# EAGLE library part EP4CE15F17 (library ic-Altera)
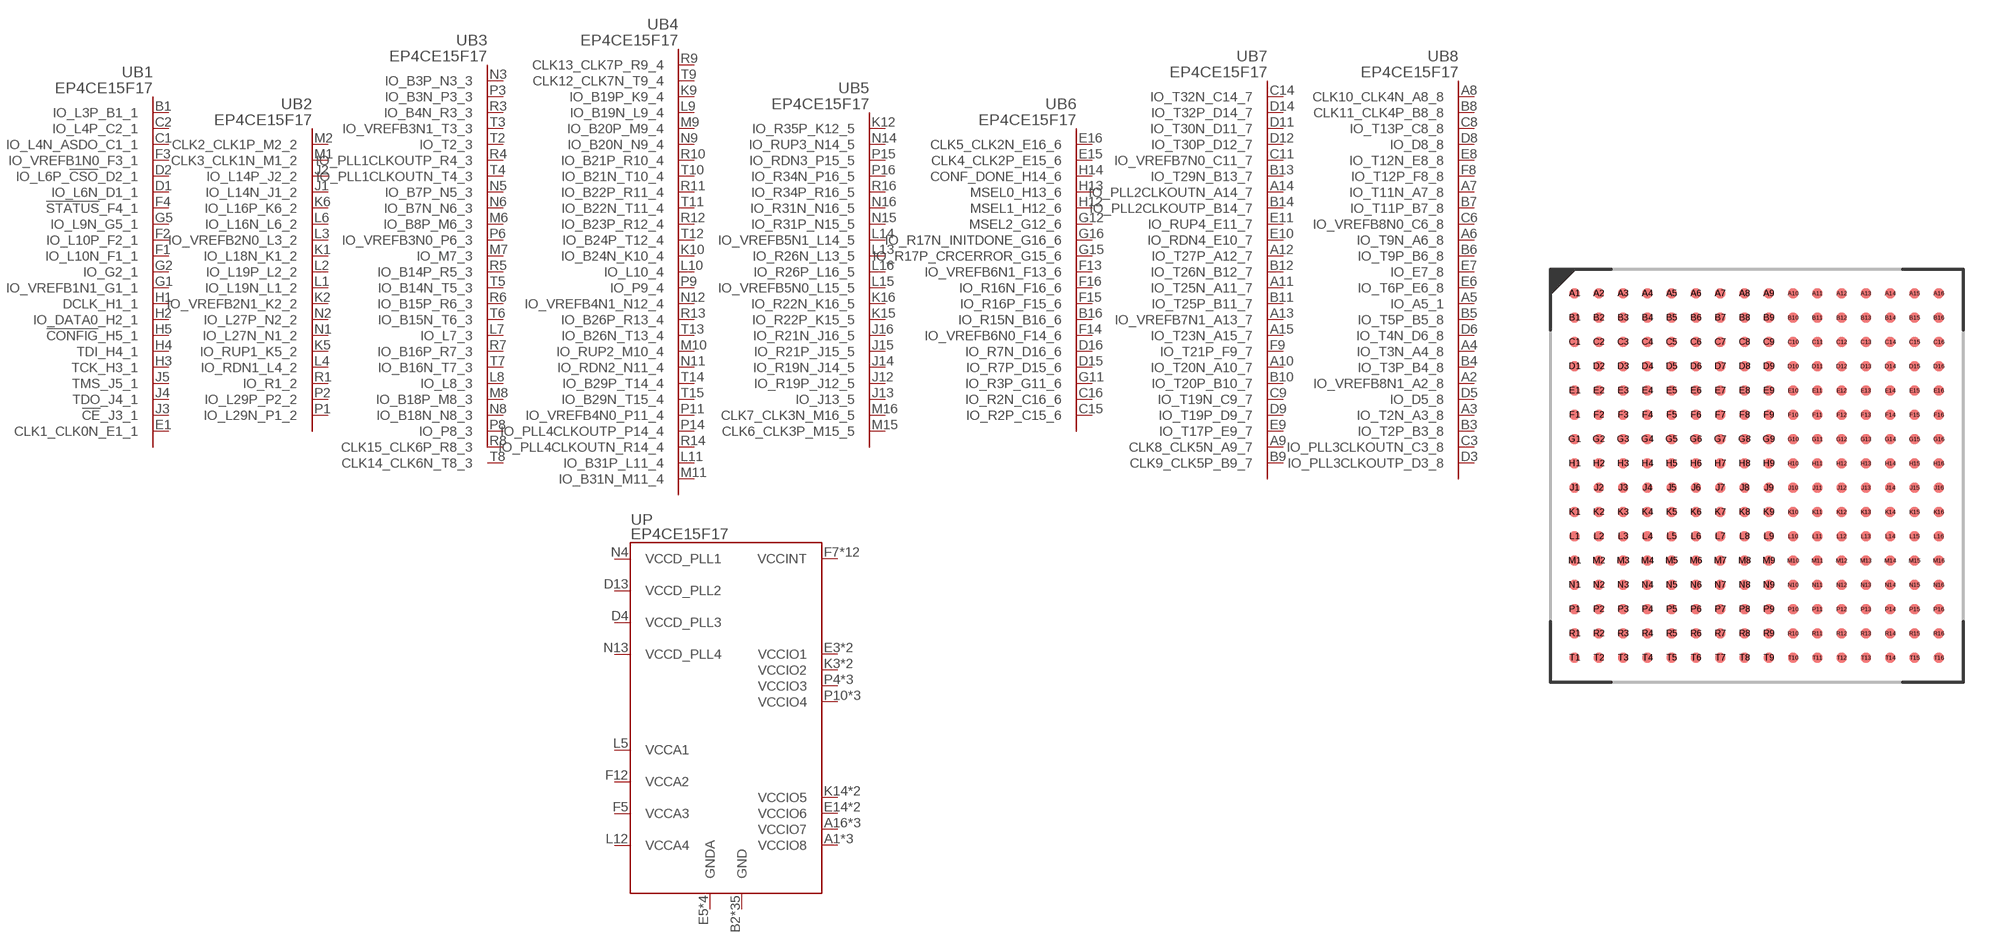
[diagram p0: symbol with the pads of BGA256-1.0; footprint BGA256-1.0]

Designator prefix U; gates B1=EP4CE15-F256_B1 B2=EP4CE15-F256_B2 B3=EP4CE15-F256_B3 B4=EP4CE15-F256_B4 B5=EP4CE15-F256_B5 B6=EP4CE15-F256_B6 B7=EP4CE15-F256_B7 B8=EP4CE15-F256_B8 P=EP4CE15-F256_POWER

## EP4CE15F17  [BGA256-1.0]
A1  P:VCCIO8
A2  B8:IO_VREFB8N1_A2_8
A3  B8:IO_T2N_A3_8
A4  B8:IO_T3N_A4_8
A5  B8:IO_A5_1
A6  B8:IO_T9N_A6_8
A7  B8:IO_T11N_A7_8
A8  B8:CLK10_CLK4N_A8_8
A9  B7:CLK8_CLK5N_A9_7
A10  B7:IO_T20N_A10_7
A11  B7:IO_T25N_A11_7
A12  B7:IO_T27P_A12_7
A13  B7:IO_VREFB7N1_A13_7
A14  B7:IO_PLL2CLKOUTN_A14_7
A15  B7:IO_T23N_A15_7
A16  P:VCCIO7
B1  B1:IO_L3P_B1_1
B2  P:GND
B3  B8:IO_T2P_B3_8
B4  B8:IO_T3P_B4_8
B5  B8:IO_T5P_B5_8
B6  B8:IO_T9P_B6_8
B7  B8:IO_T11P_B7_8
B8  B8:CLK11_CLK4P_B8_8
B9  B7:CLK9_CLK5P_B9_7
B10  B7:IO_T20P_B10_7
B11  B7:IO_T25P_B11_7
B12  B7:IO_T26N_B12_7
B13  B7:IO_T29N_B13_7
B14  B7:IO_PLL2CLKOUTP_B14_7
B15  P:GND
B16  B6:IO_R15N_B16_6
C1  B1:IO_L4N_ASDO_C1_1
C2  B1:IO_L4P_C2_1
C3  B8:IO_PLL3CLKOUTN_C3_8
C4  P:VCCIO8
C5  P:GND
C6  B8:IO_VREFB8N0_C6_8
C7  P:VCCIO8
C8  B8:IO_T13P_C8_8
C9  B7:IO_T19N_C9_7
C10  P:VCCIO7
C11  B7:IO_VREFB7N0_C11_7
C12  P:GND
C13  P:VCCIO7
C14  B7:IO_T32N_C14_7
C15  B6:IO_R2P_C15_6
C16  B6:IO_R2N_C16_6
D1  B1:IO_L6N_D1_1
D2  B1:IO_L6P_!CSO!_D2_1
D3  B8:IO_PLL3CLKOUTP_D3_8
D4  P:VCCD_PLL3
D5  B8:IO_D5_8
D6  B8:IO_T4N_D6_8
D7  P:GND
D8  B8:IO_D8_8
D9  B7:IO_T19P_D9_7
D10  P:GND
D11  B7:IO_T30N_D11_7
D12  B7:IO_T30P_D12_7
D13  P:VCCD_PLL2
D14  B7:IO_T32P_D14_7
D15  B6:IO_R7P_D15_6
D16  B6:IO_R7N_D16_6
E1  B1:CLK1_CLK0N_E1_1
E2  P:GND
E3  P:VCCIO1
E4  P:GND
E5  P:GNDA
E6  B8:IO_T6P_E6_8
E7  B8:IO_E7_8
E8  B8:IO_T12N_E8_8
E9  B7:IO_T17P_E9_7
E10  B7:IO_RDN4_E10_7
E11  B7:IO_RUP4_E11_7
E12  P:GNDA
E13  P:GND
E14  P:VCCIO6
E15  B6:CLK4_CLK2P_E15_6
E16  B6:CLK5_CLK2N_E16_6
F1  B1:IO_L10N_F1_1
F2  B1:IO_L10P_F2_1
F3  B1:IO_VREFB1N0_F3_1
F4  B1:!STATUS!_F4_1
F5  P:VCCA3
F6  P:GND
F7  P:VCCINT
F8  B8:IO_T12P_F8_8
F9  B7:IO_T21P_F9_7
F10  P:GND
F11  P:VCCINT
F12  P:VCCA2
F13  B6:IO_VREFB6N1_F13_6
F14  B6:IO_VREFB6N0_F14_6
F15  B6:IO_R16P_F15_6
F16  B6:IO_R16N_F16_6
G1  B1:IO_VREFB1N1_G1_1
G2  B1:IO_G2_1
G3  P:VCCIO1
G4  P:GND
G5  B1:IO_L9N_G5_1
G6  P:VCCINT
G7  P:VCCINT
G8  P:VCCINT
G9  P:VCCINT
G10  P:VCCINT
G11  B6:IO_R3P_G11_6
G12  B6:MSEL2_G12_6
G13  P:GND
G14  P:VCCIO6
G15  B6:IO_R17P_CRCERROR_G15_6
G16  B6:IO_R17N_INITDONE_G16_6
H1  B1:DCLK_H1_1
H2  B1:IO_DATA0_H2_1
H3  B1:TCK_H3_1
H4  B1:TDI_H4_1
H5  B1:!CONFIG!_H5_1
H6  P:VCCINT
H7  P:GND
H8  P:GND
H9  P:GND
H10  P:GND
H11  P:VCCINT
H12  B6:MSEL1_H12_6
H13  B6:MSEL0_H13_6
H14  B6:CONF_DONE_H14_6
H15  P:GND
H16  P:GND
J1  B2:IO_L14N_J1_2
J2  B2:IO_L14P_J2_2
J3  B1:!CE!_J3_1
J4  B1:TDO_J4_1
J5  B1:TMS_J5_1
J6  P:VCCINT
J7  P:GND
J8  P:GND
J9  P:GND
J10  P:GND
J11  P:GND
J12  B5:IO_R19P_J12_5
J13  B5:IO_J13_5
J14  B5:IO_R19N_J14_5
J15  B5:IO_R21P_J15_5
J16  B5:IO_R21N_J16_5
K1  B2:IO_L18N_K1_2
K2  B2:IO_VREFB2N1_K2_2
K3  P:VCCIO2
K4  P:GND
K5  B2:IO_RUP1_K5_2
K6  B2:IO_L16P_K6_2
K7  P:VCCINT
K8  P:GND
K9  B4:IO_B19P_K9_4
K10  B4:IO_B24N_K10_4
K11  P:VCCINT
K12  B5:IO_R35P_K12_5
K13  P:GND
K14  P:VCCIO5
K15  B5:IO_R22P_K15_5
K16  B5:IO_R22N_K16_5
L1  B2:IO_L19N_L1_2
L2  B2:IO_L19P_L2_2
L3  B2:IO_VREFB2N0_L3_2
L4  B2:IO_RDN1_L4_2
L5  P:VCCA1
L6  B2:IO_L16N_L6_2
L7  B3:IO_L7_3
L8  B3:IO_L8_3
L9  B4:IO_B19N_L9_4
L10  B4:IO_L10_4
L11  B4:IO_B31P_L11_4
L12  P:VCCA4
L13  B5:IO_R26N_L13_5
L14  B5:IO_VREFB5N1_L14_5
L15  B5:IO_VREFB5N0_L15_5
L16  B5:IO_R26P_L16_5
M1  B2:CLK3_CLK1N_M1_2
M2  B2:CLK2_CLK1P_M2_2
M3  P:VCCIO2
M4  P:GND
M5  P:GNDA
M6  B3:IO_B8P_M6_3
M7  B3:IO_M7_3
M8  B3:IO_B18P_M8_3
M9  B4:IO_B20P_M9_4
M10  B4:IO_RUP2_M10_4
M11  B4:IO_B31N_M11_4
M12  P:GNDA
M13  P:GND
M14  P:VCCIO5
M15  B5:CLK6_CLK3P_M15_5
M16  B5:CLK7_CLK3N_M16_5
N1  B2:IO_L27N_N1_2
N2  B2:IO_L27P_N2_2
N3  B3:IO_B3P_N3_3
N4  P:VCCD_PLL1
N5  B3:IO_B7P_N5_3
N6  B3:IO_B7N_N6_3
N7  P:GND
N8  B3:IO_B18N_N8_3
N9  B4:IO_B20N_N9_4
N10  P:GND
N11  B4:IO_RDN2_N11_4
N12  B4:IO_VREFB4N1_N12_4
N13  P:VCCD_PLL4
N14  B5:IO_RUP3_N14_5
N15  B5:IO_R31P_N15_5
N16  B5:IO_R31N_N16_5
P1  B2:IO_L29N_P1_2
P2  B2:IO_L29P_P2_2
P3  B3:IO_B3N_P3_3
P4  P:VCCIO3
P5  P:GND
P6  B3:IO_VREFB3N0_P6_3
P7  P:VCCIO3
P8  B3:IO_P8_3
P9  B4:IO_P9_4
P10  P:VCCIO4
P11  B4:IO_VREFB4N0_P11_4
P12  P:GND
P13  P:VCCIO4
P14  B4:IO_PLL4CLKOUTP_P14_4
P15  B5:IO_RDN3_P15_5
P16  B5:IO_R34N_P16_5
R1  B2:IO_R1_2
R2  P:GND
R3  B3:IO_B4N_R3_3
R4  B3:IO_PLL1CLKOUTP_R4_3
R5  B3:IO_B14P_R5_3
R6  B3:IO_B15P_R6_3
R7  B3:IO_B16P_R7_3
R8  B3:CLK15_CLK6P_R8_3
R9  B4:CLK13_CLK7P_R9_4
R10  B4:IO_B21P_R10_4
R11  B4:IO_B22P_R11_4
R12  B4:IO_B23P_R12_4
R13  B4:IO_B26P_R13_4
R14  B4:IO_PLL4CLKOUTN_R14_4
R15  P:GND
R16  B5:IO_R34P_R16_5
T1  P:VCCIO3
T2  B3:IO_T2_3
T3  B3:IO_VREFB3N1_T3_3
T4  B3:IO_PLL1CLKOUTN_T4_3
T5  B3:IO_B14N_T5_3
T6  B3:IO_B15N_T6_3
T7  B3:IO_B16N_T7_3
T8  B3:CLK14_CLK6N_T8_3
T9  B4:CLK12_CLK7N_T9_4
T10  B4:IO_B21N_T10_4
T11  B4:IO_B22N_T11_4
T12  B4:IO_B24P_T12_4
T13  B4:IO_B26N_T13_4
T14  B4:IO_B29P_T14_4
T15  B4:IO_B29N_T15_4
T16  P:VCCIO4

## Footprint BGA256-1.0 (pad centres in mm)
smd 0.4 x 0.4: A1 -7.5,7.5; A2 -6.5,7.5; A3 -5.5,7.5; A4 -4.5,7.5; A5 -3.5,7.5; A6 -2.5,7.5; A7 -1.5,7.5; A8 -0.5,7.5; A9 0.5,7.5; A10 1.5,7.5; A11 2.5,7.5; A12 3.5,7.5; A13 4.5,7.5; A14 5.5,7.5; A15 6.5,7.5; A16 7.5,7.5; B1 -7.5,6.5; B2 -6.5,6.5; B3 -5.5,6.5; B4 -4.5,6.5; B5 -3.5,6.5; B6 -2.5,6.5; B7 -1.5,6.5; B8 -0.5,6.5; B9 0.5,6.5; B10 1.5,6.5; B11 2.5,6.5; B12 3.5,6.5; B13 4.5,6.5; B14 5.5,6.5; B15 6.5,6.5; B16 7.5,6.5; C1 -7.5,5.5; C2 -6.5,5.5; C3 -5.5,5.5; C4 -4.5,5.5; C5 -3.5,5.5; C6 -2.5,5.5; C7 -1.5,5.5; C8 -0.5,5.5; C9 0.5,5.5; C10 1.5,5.5; C11 2.5,5.5; C12 3.5,5.5; C13 4.5,5.5; C14 5.5,5.5; C15 6.5,5.5; C16 7.5,5.5; D1 -7.5,4.5; D2 -6.5,4.5; D3 -5.5,4.5; D4 -4.5,4.5; D5 -3.5,4.5; D6 -2.5,4.5; D7 -1.5,4.5; D8 -0.5,4.5; D9 0.5,4.5; D10 1.5,4.5; D11 2.5,4.5; D12 3.5,4.5; D13 4.5,4.5; D14 5.5,4.5; D15 6.5,4.5; D16 7.5,4.5; E1 -7.5,3.5; E2 -6.5,3.5; E3 -5.5,3.5; E4 -4.5,3.5; E5 -3.5,3.5; E6 -2.5,3.5; E7 -1.5,3.5; E8 -0.5,3.5; E9 0.5,3.5; E10 1.5,3.5; E11 2.5,3.5; E12 3.5,3.5; E13 4.5,3.5; E14 5.5,3.5; E15 6.5,3.5; E16 7.5,3.5; F1 -7.5,2.5; F2 -6.5,2.5; F3 -5.5,2.5; F4 -4.5,2.5; F5 -3.5,2.5; F6 -2.5,2.5; F7 -1.5,2.5; F8 -0.5,2.5; F9 0.5,2.5; F10 1.5,2.5; F11 2.5,2.5; F12 3.5,2.5; F13 4.5,2.5; F14 5.5,2.5; F15 6.5,2.5; F16 7.5,2.5; G1 -7.5,1.5; G2 -6.5,1.5; G3 -5.5,1.5; G4 -4.5,1.5; G5 -3.5,1.5; G6 -2.5,1.5; G7 -1.5,1.5; G8 -0.5,1.5; G9 0.5,1.5; G10 1.5,1.5; G11 2.5,1.5; G12 3.5,1.5; G13 4.5,1.5; G14 5.5,1.5; G15 6.5,1.5; G16 7.5,1.5; H1 -7.5,0.5; H2 -6.5,0.5; H3 -5.5,0.5; H4 -4.5,0.5; H5 -3.5,0.5; H6 -2.5,0.5; H7 -1.5,0.5; H8 -0.5,0.5; H9 0.5,0.5; H10 1.5,0.5; H11 2.5,0.5; H12 3.5,0.5; H13 4.5,0.5; H14 5.5,0.5; H15 6.5,0.5; H16 7.5,0.5; J1 -7.5,-0.5; J2 -6.5,-0.5; J3 -5.5,-0.5; J4 -4.5,-0.5; J5 -3.5,-0.5; J6 -2.5,-0.5; J7 -1.5,-0.5; J8 -0.5,-0.5; J9 0.5,-0.5; J10 1.5,-0.5; J11 2.5,-0.5; J12 3.5,-0.5; J13 4.5,-0.5; J14 5.5,-0.5; J15 6.5,-0.5; J16 7.5,-0.5; K1 -7.5,-1.5; K2 -6.5,-1.5; K3 -5.5,-1.5; K4 -4.5,-1.5; K5 -3.5,-1.5; K6 -2.5,-1.5; K7 -1.5,-1.5; K8 -0.5,-1.5; K9 0.5,-1.5; K10 1.5,-1.5; K11 2.5,-1.5; K12 3.5,-1.5; K13 4.5,-1.5; K14 5.5,-1.5; K15 6.5,-1.5; K16 7.5,-1.5; L1 -7.5,-2.5; L2 -6.5,-2.5; L3 -5.5,-2.5; L4 -4.5,-2.5; L5 -3.5,-2.5; L6 -2.5,-2.5; L7 -1.5,-2.5; L8 -0.5,-2.5; L9 0.5,-2.5; L10 1.5,-2.5; L11 2.5,-2.5; L12 3.5,-2.5; L13 4.5,-2.5; L14 5.5,-2.5; L15 6.5,-2.5; L16 7.5,-2.5; M1 -7.5,-3.5; M2 -6.5,-3.5; M3 -5.5,-3.5; M4 -4.5,-3.5; M5 -3.5,-3.5; M6 -2.5,-3.5; M7 -1.5,-3.5; M8 -0.5,-3.5; M9 0.5,-3.5; M10 1.5,-3.5; M11 2.5,-3.5; M12 3.5,-3.5; M13 4.5,-3.5; M14 5.5,-3.5; M15 6.5,-3.5; M16 7.5,-3.5; N1 -7.5,-4.5; N2 -6.5,-4.5; N3 -5.5,-4.5; N4 -4.5,-4.5; N5 -3.5,-4.5; N6 -2.5,-4.5; N7 -1.5,-4.5; N8 -0.5,-4.5; N9 0.5,-4.5; N10 1.5,-4.5; N11 2.5,-4.5; N12 3.5,-4.5; N13 4.5,-4.5; N14 5.5,-4.5; N15 6.5,-4.5; N16 7.5,-4.5; P1 -7.5,-5.5; P2 -6.5,-5.5; P3 -5.5,-5.5; P4 -4.5,-5.5; P5 -3.5,-5.5; P6 -2.5,-5.5; P7 -1.5,-5.5; P8 -0.5,-5.5; P9 0.5,-5.5; P10 1.5,-5.5; P11 2.5,-5.5; P12 3.5,-5.5; P13 4.5,-5.5; P14 5.5,-5.5; P15 6.5,-5.5; P16 7.5,-5.5; R1 -7.5,-6.5; R2 -6.5,-6.5; R3 -5.5,-6.5; R4 -4.5,-6.5; R5 -3.5,-6.5; R6 -2.5,-6.5; R7 -1.5,-6.5; R8 -0.5,-6.5; R9 0.5,-6.5; R10 1.5,-6.5; R11 2.5,-6.5; R12 3.5,-6.5; R13 4.5,-6.5; R14 5.5,-6.5; R15 6.5,-6.5; R16 7.5,-6.5; T1 -7.5,-7.5; T2 -6.5,-7.5; T3 -5.5,-7.5; T4 -4.5,-7.5; T5 -3.5,-7.5; T6 -2.5,-7.5; T7 -1.5,-7.5; T8 -0.5,-7.5; T9 0.5,-7.5; T10 1.5,-7.5; T11 2.5,-7.5; T12 3.5,-7.5; T13 4.5,-7.5; T14 5.5,-7.5; T15 6.5,-7.5; T16 7.5,-7.5